# EAGLE library part TPS2513A (library My_TI)
TPS2513A-Q1 USB Dedicated Charging Port Controller. • Automatically Selects Charge Mode. • Operating Range: 4.5 V to 5.5 V . Datasheet <http://www.ti.com/lit/ds/symlink/tps2513a-q1.pdf>
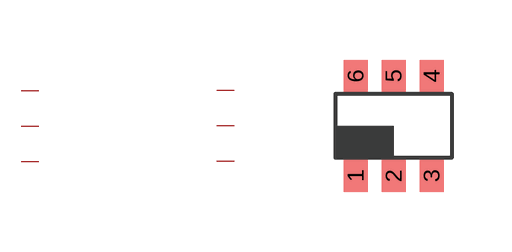
[diagram p59: symbol with the pads of TSOT23-6_DDC; footprint TSOT23-6_DDC]

Designator prefix -

## TPS2513A  [TSOT23-6_DDC]
1  P$1
2  P$2
3  P$3
4  P$4
5  P$5
6  P$6

## Footprint TSOT23-6_DDC (pad centres in mm)
DDC (R-PDSO-G6) PLASTIC SMALL OUTLINE PACKAGE Source: http://focus.ti.com/lit/ds/symlink/tps61070.pdf
smd 0.6 x 0.8: 1 -0.95,-1.25; 2 0,-1.25; 3 0.95,-1.25; 4 0.95,1.25; 5 0,1.25; 6 -0.95,1.25